# EAGLE library part 36638 (library FSAE Electric (Alexander Ray's conflicted copy 2016-04-02))
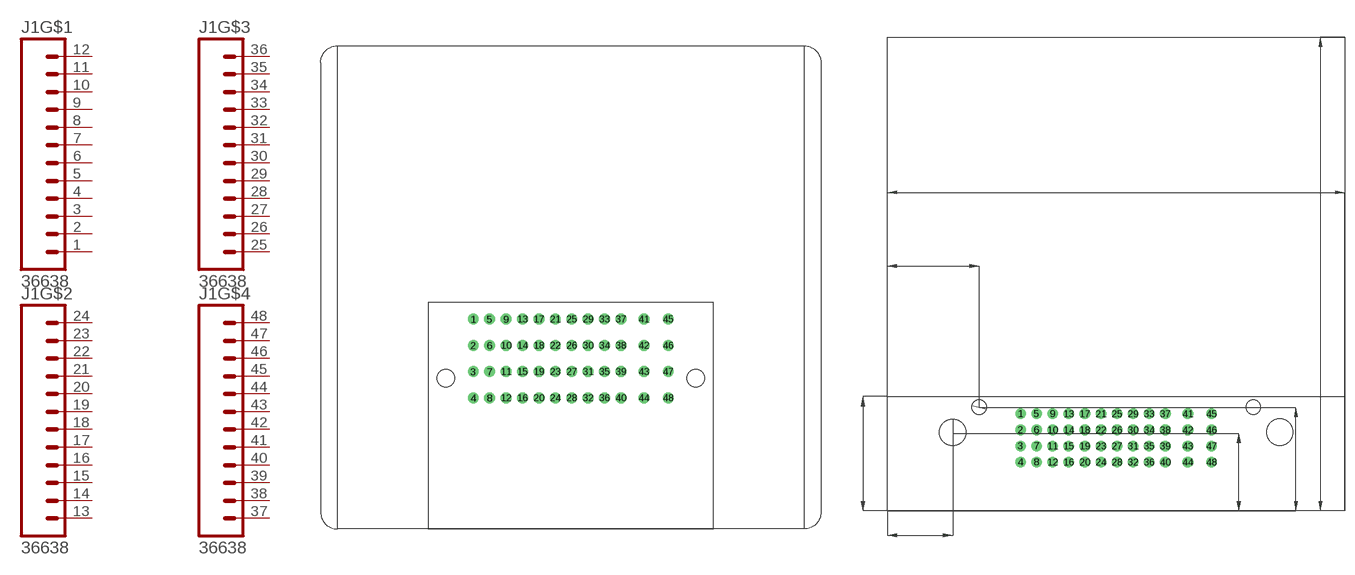
[diagram p58: symbol with the pads of 36638-LARGE; footprints 36638-LARGE, 36638-M]

Designator prefix J1; gates G$1=M12 G$2=M12 G$3=M12 G$4=M12

## 36638OLD (PARTNO: 0366380002)  [36638-LARGE]
1  G$1:1  pas
2  G$1:2  pas
3  G$1:3  pas
4  G$1:4  pas
5  G$1:5  pas
6  G$1:6  pas
7  G$1:7  pas
8  G$1:8  pas
9  G$1:9  pas
10  G$1:10  pas
11  G$1:11  pas
12  G$1:12  pas
13  G$2:1  pas
14  G$2:2  pas
15  G$2:3  pas
16  G$2:4  pas
17  G$2:5  pas
18  G$2:6  pas
19  G$2:7  pas
20  G$2:8  pas
21  G$2:9  pas
22  G$2:10  pas
23  G$2:11  pas
24  G$2:12  pas
25  G$3:1  pas
26  G$3:2  pas
27  G$3:3  pas
28  G$3:4  pas
29  G$3:5  pas
30  G$3:6  pas
31  G$3:7  pas
32  G$3:8  pas
33  G$3:9  pas
34  G$3:10  pas
35  G$3:11  pas
36  G$3:12  pas
37  G$4:1  pas
38  G$4:2  pas
39  G$4:3  pas
40  G$4:4  pas
41  G$4:5  pas
42  G$4:6  pas
43  G$4:7  pas
44  G$4:8  pas
45  G$4:9  pas
46  G$4:10  pas
47  G$4:11  pas
48  G$4:12  pas

## 36638NEW  [36638-M]
Pads as for 36638-LARGE

## Footprint 36638-LARGE (pad centres in mm)
drill 1.1: 1 -14.85,32; 2 -14.85,28; 3 -14.85,24; 4 -14.85,20; 5 -12.35,32; 6 -12.35,28; 7 -12.35,24; 8 -12.35,20; 9 -9.85,32; 10 -9.85,28; 11 -9.85,24; 12 -9.85,20; 13 -7.35,32; 14 -7.35,28; 15 -7.35,24; 16 -7.35,20; 17 -4.85,32; 18 -4.85,28; 19 -4.85,24; 20 -4.85,20; 21 -2.35,32; 22 -2.35,28; 23 -2.35,24; 24 -2.35,20; 25 0.15,32; 26 0.15,28; 27 0.15,24; 28 0.15,20; 29 2.65,32; 30 2.65,28; 31 2.65,24; 32 2.65,20; 33 5.15,32; 34 5.15,28; 35 5.15,24; 36 5.15,20; 37 7.65,32; 38 7.65,28; 39 7.65,24; 40 7.65,20; 41 11.15,32; 42 11.15,28; 43 11.15,24; 44 11.15,20; 45 14.85,32; 46 14.85,28; 47 14.85,24; 48 14.85,20
hole 2.7 at -19.05,23
hole 2.7 at 19.05,23

## Footprint 36638-M (pad centres in mm)
drill 1.1: 1 20.7,15.1; 2 20.7,12.6; 3 20.7,10.1; 4 20.7,7.6; 5 23.2,15.1; 6 23.2,12.6; 7 23.2,10.1; 8 23.2,7.6; 9 25.7,15.1; 10 25.7,12.6; 11 25.7,10.1; 12 25.7,7.6; 13 28.2,15.1; 14 28.2,12.6; 15 28.2,10.1; 16 28.2,7.6; 17 30.7,15.1; 18 30.7,12.6; 19 30.7,10.1; 20 30.7,7.6; 21 33.2,15.1; 22 33.2,12.6; 23 33.2,10.1; 24 33.2,7.6; 25 35.7,15.1; 26 35.7,12.6; 27 35.7,10.1; 28 35.7,7.6; 29 38.2,15.1; 30 38.2,12.6; 31 38.2,10.1; 32 38.2,7.6; 33 40.7,15.1; 34 40.7,12.6; 35 40.7,10.1; 36 40.7,7.6; 37 43.2,15.1; 38 43.2,12.6; 39 43.2,10.1; 40 43.2,7.6; 41 46.7,15.1; 42 46.7,12.6; 43 46.7,10.1; 44 46.7,7.6; 45 50.4,15.1; 46 50.4,12.6; 47 50.4,10.1; 48 50.4,7.6
hole 2.25 at 56.87,16.1
hole 4.1 at 60.99,12.26
hole 2.25 at 14.28,16.12
hole 4.1 at 10.16,12.21